# Altium footprint library LMAT_DCT_V2.PcbLib: 3 footprints
Each footprint in its own frame and in the unit in brackets; x right, y up, seen from the top. Pads: shape width x height; smd on the part's side, far side on the other; paste and mask are expansions set on the pad; w line width, h text height; cw(c..) or ccw(c..) is an arc to the next point about the centre after c.
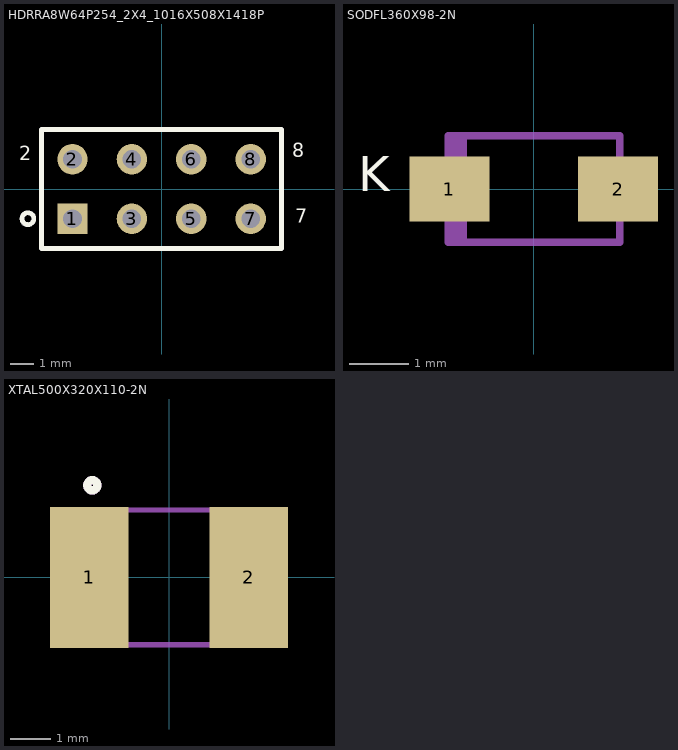
[diagram p0: the footprints below, top view; thin cyan lines are the x and y axes]

## HDRRA8W64P254_2X4_1016X508X1418P [mm] "CONN HEADER R/A 8POS 2.54MM"
height 14.18
pads (8):
  rect 1.3x1.3 hole 0.8: 1(-3.81,-1.27)
  round 1.3 hole 0.8: 2(-3.81,1.27) 3(-1.27,-1.27) 4(-1.27,1.27) 5(1.27,-1.27) 6(1.27,1.27) 7(3.81,-1.27) 8(3.81,1.27)
Top Overlay:
  circle w0.203: c-5.715,-1.27 r0.254
  lines w0.203: -5.13,-2.54 -5.13,2.54 5.13,2.54 5.13,-2.54 -5.13,-2.54
  text "8" at 5.588,1.143 h1.02
  text "7" at 5.715,-1.651 h1.02
  text "2" at -6.096,1.016 h1.02
Outline:
  text "'.Designator'" at 0,0 h1.52
Courtyard Top:
  circle w0.127: c-5.715,-1.27 r0.254
  lines w0.127: -5.13,-2.54 5.13,-2.54 5.13,2.54 -5.13,2.54 -5.13,-2.54
3D body "M20-9950445.stp": height 5.13, standoff -2.95, extent -5.08,-12.214 5.08,1.546

## SODFL360X98-2N [mm] "SODFL, 2-Leads, Body 1.65x3.60mm, IPC Medium Density"
height 0.98
pads (2):
  rect 1.35x1.1 smd: 1(-1.425,0) 2(1.425,0)
Top Overlay:
  text "K" at -2.972,-0.229 h1.02
Outline:
  text "'.Designator'" at 0,0 h1.02
Courtyard Top:
  lines w0.127: -1.321,-0.9 -1.321,0.9 ; -1.194,-0.9 -1.194,0.9 ; -1.45,-0.9 1.45,-0.9 1.45,0.9 -1.45,0.9 -1.45,-0.9
  text "K" at -2.972,-0.229 h1.02
3D body "SODFL360X98-2N.step": height 0.98, standoff 0, extent -1.8,-0.9 1.8,0.9

## XTAL500X320X110-2N [mm] "DFN, 2-Leads, Body 3.20x5.00mm, Pitch 3.95mm, IPC Medium Density"
height 1.1
pads (2):
  rect 1.95x3.5 smd: 1(-1.975,0) 2(1.975,0)
Top Overlay:
  circle w0.203: c-1.905,2.286 r0.127
Outline:
  text "'.Designator'" at 0,0 h0.76
Courtyard Top:
  circle w0.203: c-1.905,2.286 r0.127
  lines w0.127: -2.575,-1.675 -2.575,1.675 2.575,1.675 2.575,-1.675 -2.575,-1.675
3D body "DFN395P500X110-2N.step": height 1.1, standoff 0, extent -2.95,-1.75 2.95,1.75